# Altium schematic symbol library MR25H40-DFN08.SchLib: 1 symbol
Pins are listed as number, name and electrical type; pins without a type are passive.

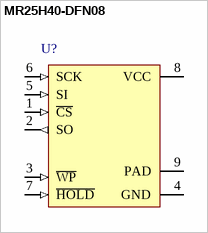
[diagram p0: symbol MR25H40-DFN08]

## MR25H40-DFN08
designator U?  (value not drawn)
pins: 1 ~{CS} (in), 2 SO (out), 3 ~{WP} (in), 4 GND (power), 5 SI (in), 6 SCK (in), 7 ~{HOLD} (in), 8 VCC (power), 9 PAD (power)